# Altium schematic symbol library BH-18650-PC.SchLib: 1 symbol
Pins are listed as number, name and electrical type; pins without a type are passive.

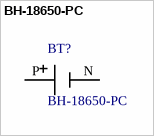
[diagram p0: symbol BH-18650-PC]

## BH-18650-PC
designator BT?
/ BATTERY HOLDER 18650 PC PIN /; MF: MPD; SnapEDA_Link: https://www.snapeda.com/parts/BH-18650-PC/MPD/view-part/4389091/?ref=snap; Digi-Key_Part_Number: BH-18650-PC-ND; Digi-Key_Purchase_URL: https://www.digikey.vn/product-detail/en/mpd-memory-protection-devices/BH-18650-PC/BH-18650-PC-ND/3029216?utm_source=snapeda&utm_medium=aggregator&utm_campaign=symbol; MP: BH-18650-PC; Package: None; Value: *
footprint *BAT_BH-18650-PC_BH-18650-PC(Primary)
pins: N NEG, P POS